# Altium footprint library BLE_ADS_062819.PcbLib: 20 footprints (part 1 of 2)
Each footprint in its own frame and in the unit in brackets; x right, y up, seen from the top. Pads: shape width x height; smd on the part's side, far side on the other; paste and mask are expansions set on the pad; w line width, h text height; cw(c..) or ccw(c..) is an arc to the next point about the centre after c.
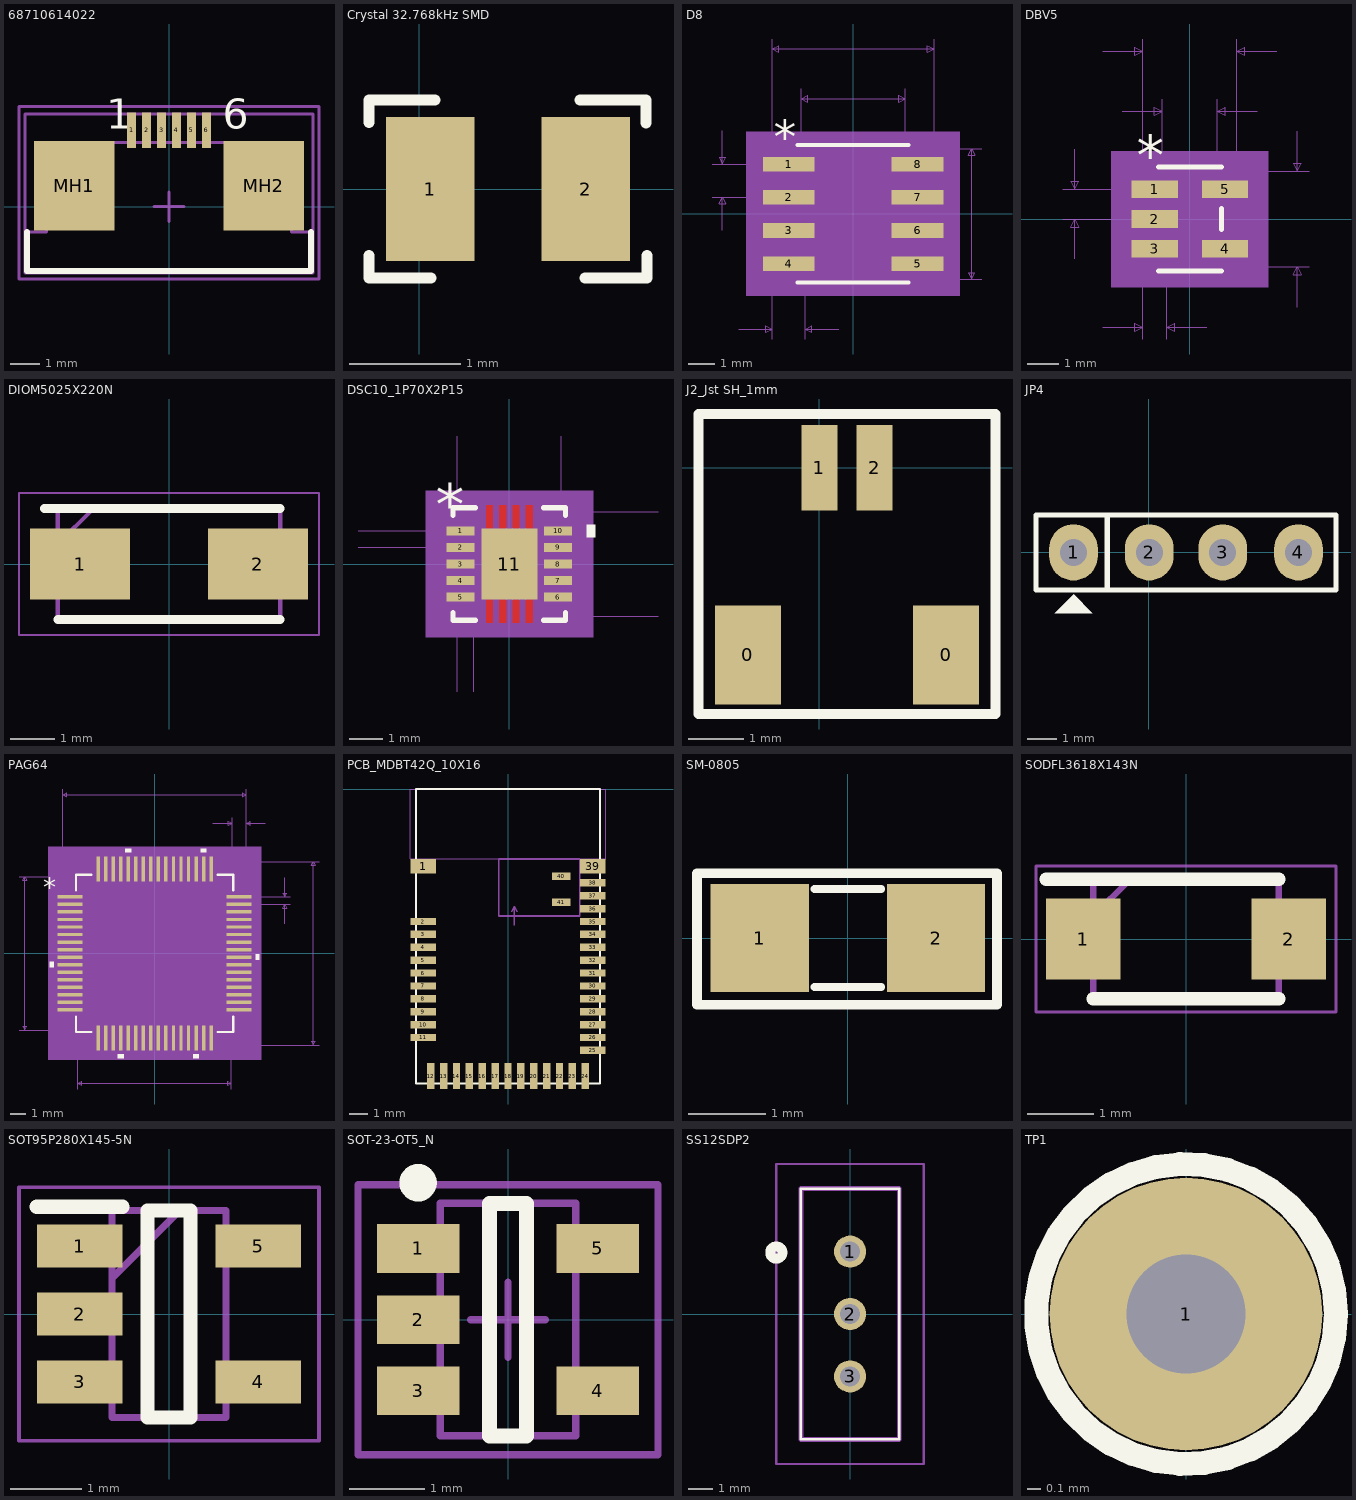
[diagram p0: the footprints below, top view; thin cyan lines are the x and y axes]

## 68710614022 [mm] "ZIF Connectors, Horizontal, Top Contact, pitch 0.5mm, 6p"
height 2.25
pads (8):
  rect 0.3x1.2 smd: 1(-1.25,2.56) 2(-0.75,2.56) 3(-0.25,2.56) 4(0.25,2.56) 5(0.75,2.56) 6(1.25,2.56)
  rect 2.7x3 smd: MH1(-3.18,0.7) MH2(3.18,0.7)
Top Overlay:
  lines w0.2: -4.75,-0.85 -4.75,-2.15 4.75,-2.15 4.75,-0.85
  text "6" at 1.8,2.61 h1
  text "1" at -2.1,2.61 h1
Mechanical 11:
  lines w0.1: -4.75,-2.15 -4.75,-0.85 -4.1,-0.85 -4.1,2.15 4.1,2.15 4.1,-0.85 4.75,-0.85 4.75,-2.15 -4.75,-2.15
Mechanical 13:
  lines w0.1: -4.825,-2.225 4.825,-2.225 4.825,3.1 -4.825,3.1 -4.825,-2.225
Mechanical 15:
  lines w0.1: -0.5,0 0.5,0 ; 0,-0.5 0,0.5 ; -5.025,-2.425 -5.025,3.36 5.025,3.36 5.025,-2.425 -5.025,-2.425
3D body "68710614022.stp": height 2.1, standoff 0, extent -4.7,-2.15 4.7,2.95

## Crystal 32.768kHz SMD [mm] "XT"
height 2.25
pads (2):
  rect 0.8x1.3 smd: 1(0.1,0) 2(1.5,0)
Top Overlay:
  lines w0.1: -0.45,-0.6 -0.45,-0.8 0.105,-0.8 ; -0.45,0.6 -0.45,0.8 0.143,0.8 ; 1.45,0.8 2.043,0.8 2.043,0.597 ; 1.495,-0.8 2.05,-0.8 2.05,-0.6

## D8 [mil]
height 88.58
pads (8):
  rect 78x22 smd paste+0 mask+0: 1(-97,75) 2(-97,25) 3(-97,-25) 4(-97,-75) 5(97,-75) 6(97,-25) 7(97,25) 8(97,75)
Top Overlay:
  lines w6: -83.5,-103.5 83.5,-103.5 ; -83.5,103.5 83.5,103.5
  text "*" at -119.5,92 h50
Mechanical 5:
  region: 161,-123.5 -161,-123.5 -161,123.5 161,123.5
Mechanical 7:
  lines w1: -212,25 -97,25 ; -212,75 -97,75 ; -197,-25 -197,25 ; -197,125 -197,75 ; -172,-173.5 -122,-173.5 ; -122,-188.5 -122,0 -122,263.5 ; -78.5,0 -78.5,188.5 ; -72,-188.5 -72,0 ; -22,-173.5 -72,-173.5 ; 0,-98.5 193.5,-98.5 ; 0,98.5 193.5,98.5 ; 78.5,0 78.5,188.5 ; 122,0 122,263.5 ; -197,25 -202,15 -192,15 -197,25 ; -197,75 -202,85 -192,85 -197,75 ; -122,-173.5 -132,-168.5 -132,-178.5 -122,-173.5 ; -122,248.5 122,248.5 ; -122,248.5 -112,253.5 -112,243.5 -122,248.5 ; -78.5,173.5 78.5,173.5 ; -78.5,173.5 -68.5,178.5 -68.5,168.5 -78.5,173.5 ; -72,-173.5 -62,-168.5 -62,-178.5 -72,-173.5 ; 78.5,173.5 68.5,178.5 68.5,168.5 78.5,173.5 ; 122,248.5 112,253.5 112,243.5 122,248.5 ; 178.5,-98.5 178.5,98.5 ; 178.5,-98.5 173.5,-88.5 183.5,-88.5 178.5,-98.5 ; 178.5,98.5 173.5,88.5 183.5,88.5 178.5,98.5
Mechanical 13:
  lines w0: -12,98.5 ccw(c0,98.5) 12,98.5
  lines w1: -122,-85 -122,-65 -78.5,-65 -78.5,-85 -122,-85 ; -122,-35 -122,-15 -78.5,-15 -78.5,-35 -122,-35 ; -122,15 -122,35 -78.5,35 -78.5,15 -122,15 ; -122,65 -122,85 -78.5,85 -78.5,65 -122,65 ; -78.5,-98.5 78.5,-98.5 78.5,98.5 -78.5,98.5 -78.5,-98.5 ; 78.5,-85 78.5,-65 122,-65 122,-85 78.5,-85 ; 78.5,-35 78.5,-15 122,-15 122,-35 78.5,-35 ; 78.5,15 78.5,35 122,35 122,15 78.5,15 ; 78.5,65 78.5,85 122,85 122,65 78.5,65
  text "*" at -76,45.5 h50
Mechanical 15:
  region: -88.5,-96 -146,-96 -146,96 -88.5,96 -88.5,108.5 88.5,108.5 88.5,96 146,96 146,-96 88.5,-96 88.5,-108.5 -88.5,-108.5
  lines w6: -146,-96 -146,96 -88.5,96 -88.5,108.5 88.5,108.5 88.5,96 146,96 146,-96 88.5,-96 88.5,-108.5 -88.5,-108.5 -88.5,-96 -146,-96
3D body: height 10, standoff 0, extent 0,0 10,10

## DBV5 [mil]
height 88.58
pads (5):
  rect 58x22 smd paste+0 mask+0: 1(-44,37.4) 2(-44,0) 3(-44,-37.4) 4(44,-37.4) 5(44,37.4)
Top Overlay:
  lines w6: -39.5,-65 39.5,-65 ; -39.5,65 39.5,65 ; 39.5,-13.3 39.5,13.3
  text "*" at -66.5,54.4 h50
Mechanical 5:
  region: 98,-85 -98,-85 -98,85 98,85
Mechanical 7:
  lines w1: -159,0 -44,0 ; -159,37.4 -44,37.4 ; -144,-50 -144,0 ; -144,87.4 -144,37.4 ; -109,-135 -59,-135 ; -109,210 -59,210 ; -84.5,135 -34.5,135 ; -59,-150 -59,0 -59,225 ; -34.5,0 -34.5,150 ; -29,-150 -29,0 ; 0,-60 149.5,-60 ; 0,60 149.5,60 ; 21,-135 -29,-135 ; 34.5,0 34.5,150 ; 59,0 59,225 ; 84.5,135 34.5,135 ; 109,210 59,210 ; 134.5,-110 134.5,-60 ; 134.5,110 134.5,60 ; -144,0 -149,-10 -139,-10 -144,0 ; -144,37.4 -149,47.4 -139,47.4 -144,37.4 ; -59,-135 -69,-130 -69,-140 -59,-135 ; -59,210 -69,215 -69,205 -59,210 ; -34.5,135 -44.5,140 -44.5,130 -34.5,135 ; -29,-135 -19,-130 -19,-140 -29,-135 ; 34.5,135 44.5,140 44.5,130 34.5,135 ; 59,210 69,215 69,205 59,210 ; 134.5,-60 129.5,-70 139.5,-70 134.5,-60 ; 134.5,60 129.5,70 139.5,70 134.5,60
Mechanical 13:
  lines w0: -12,60 ccw(c0,60) 12,60
  lines w1: -59,-47.4 -59,-27.4 -34.5,-27.4 -34.5,-47.4 -59,-47.4 ; -59,-10 -59,10 -34.5,10 -34.5,-10 -59,-10 ; -59,27.4 -59,47.4 -34.5,47.4 -34.5,27.4 -59,27.4 ; -34.5,-60 34.5,-60 34.5,60 -34.5,60 -34.5,-60 ; 34.5,-47.4 34.5,-27.4 59,-27.4 59,-47.4 34.5,-47.4 ; 34.5,27.4 34.5,47.4 59,47.4 59,27.4 34.5,27.4
  text "*" at -37,16.4 h50
Mechanical 15:
  region: 44.5,-70 -44.5,-70 -44.5,-58.4 -83,-58.4 -83,58.4 -44.5,58.4 -44.5,70 44.5,70 44.5,58.4 83,58.4 83,-58.4 44.5,-58.4
  lines w6: -83,-58.4 -44.5,-58.4 -44.5,-70 44.5,-70 44.5,-58.4 83,-58.4 83,58.4 44.5,58.4 44.5,70 -44.5,70 -44.5,58.4 -83,58.4 -83,-58.4
3D body: height 10, standoff 0, extent 0,0 10,10

## DIOM5025X220N [mm]
height 2.25
pads (2):
  rect 2.25x1.6 smd: 1(-2,0) 2(2,0)
Top Overlay:
  lines w0.2: -2.8,1.25 2.5,1.25 ; -2.5,-1.25 2.5,-1.25
Mechanical 13:
  lines w0.1: -2.5,0.45 -1.7,1.25 ; -2.5,-1.25 -2.5,1.25 2.5,1.25 2.5,-1.25 -2.5,-1.25
Mechanical 15:
  lines w0.05: -3.375,-1.6 -3.375,1.6 3.375,1.6 3.375,-1.6 -3.375,-1.6
3D body "EC11FS2.stp": height 2.2, standoff 0, extent -2.5,-1.25 2.5,1.25

## DSC10_1P70X2P15 [mm]
height 2.25
pads (11):
  rect 0.85x0.28 smd: 1(-1.475,1) 2(-1.475,0.5) 3(-1.475,0) 4(-1.475,-0.5) 5(-1.475,-1) 6(1.475,-1) 7(1.475,-0.5) 8(1.475,0) 9(1.475,0.5) 10(1.475,1)
  rect 1.7x2.15 smd paste-1.062 mask-1.067: 11(0,0)
Top Layer:
  region: -0.1,1.775 -0.1,1.075 -0.3,1.075 -0.3,1.775
  region: 0.1,1.775 0.1,1.075 0.3,1.075 0.3,1.775
  region: -0.5,1.775 -0.5,1.075 -0.7,1.075 -0.7,1.775
  region: 0.5,1.775 0.5,1.075 0.7,1.075 0.7,1.775
  region: -0.1,-1.775 -0.1,-1.075 -0.3,-1.075 -0.3,-1.775
  region: 0.1,-1.775 0.1,-1.075 0.3,-1.075 0.3,-1.775
  region: -0.5,-1.775 -0.5,-1.075 -0.7,-1.075 -0.7,-1.775
  region: 0.5,-1.775 0.5,-1.075 0.7,-1.075 0.7,-1.775
Top Overlay:
  region: 2.337,1.191 2.591,1.191 2.591,0.81 2.337,0.81
  lines w0.152: -1.702,-1.473 -1.702,-1.702 -1.033,-1.702 ; -1.702,1.473 -1.702,1.702 -1.033,1.702 ; 1.033,-1.702 1.702,-1.702 1.702,-1.473 ; 1.033,1.702 1.702,1.702 1.702,1.473
  text "*" at -2.23,1.153 h1.27
Top Paste:
  drawing of 27 lines, arcs and shapes, not listed
Top Solder:
  region: -0.98,1.21 -1.97,1.21 -1.97,0.79 -0.98,0.79
  region: -0.98,0.71 -1.97,0.71 -1.97,0.29 -0.98,0.29
  region: -0.98,0.21 -1.97,0.21 -1.97,-0.21 -0.98,-0.21
  region: -0.98,-0.29 -1.97,-0.29 -1.97,-0.71 -0.98,-0.71
  region: -0.98,-0.79 -1.97,-0.79 -1.97,-1.21 -0.98,-1.21
  region: 1.97,-0.79 0.98,-0.79 0.98,-1.21 1.97,-1.21
  region: 1.97,-0.29 0.98,-0.29 0.98,-0.71 1.97,-0.71
  region: 1.97,0.21 0.98,0.21 0.98,-0.21 1.97,-0.21
  region: 1.97,0.71 0.98,0.71 0.98,0.29 1.97,0.29
  region: 1.97,1.21 0.98,1.21 0.98,0.79 1.97,0.79
  region: -0.1,1.775 -0.1,1.075 -0.3,1.075 -0.3,1.775
  region: 0.1,1.775 0.1,1.075 0.3,1.075 0.3,1.775
  region: -0.5,1.775 -0.5,1.075 -0.7,1.075 -0.7,1.775
  region: 0.5,1.775 0.5,1.075 0.7,1.075 0.7,1.775
  region: -0.1,-1.775 -0.1,-1.075 -0.3,-1.075 -0.3,-1.775
  region: 0.1,-1.775 0.1,-1.075 0.3,-1.075 0.3,-1.775
  region: -0.5,-1.775 -0.5,-1.075 -0.7,-1.075 -0.7,-1.775
  region: 0.5,-1.775 0.5,-1.075 0.7,-1.075 0.7,-1.775
  region: -0.914,0.594 -0.914,1.138 0.914,1.138 0.914,0.594
  region: -0.914,-0.194 -0.914,0.194 0.914,0.194 0.914,-0.194
  region: -0.914,-1.138 -0.914,-0.594 0.914,-0.594 0.914,-1.138
  region: -0.914,-1.138 -0.914,1.138 -0.594,1.138 -0.594,-1.138
  region: 0.194,-1.138 0.194,1.138 -0.194,1.138 -0.194,-1.138
  region: 0.594,-1.138 0.594,1.138 0.914,1.138 0.914,-1.138
Mechanical 5:
  region: 2.535,-2.21 -2.535,-2.21 -2.535,2.21 2.535,2.21
Mechanical 7:
  lines w0.025: -4.579,0.5 -1.658,0.5 ; -4.579,1 -1.658,1 ; -1.575,-3.861 -1.575,0 -1.575,3.861 ; -1.075,-3.861 -1.075,0 ; 0,-1.575 4.496,-1.575 ; 0,1.575 4.496,1.575 ; 1.575,0 1.575,3.861
Mechanical 13:
  lines w0: -0.305,1.575 ccw(c0,1.575) 0.305,1.575
  lines w0.025: -1.575,-1.575 1.575,-1.575 1.575,1.575 -1.575,1.575 -1.575,-1.575 ; -1.575,-1.15 -1.575,-0.85 -1.575,-1.15 ; -1.575,-0.65 -1.575,-0.35 -1.575,-0.65 ; -1.575,-0.15 -1.575,0.15 -1.575,-0.15 ; -1.575,0.35 -1.575,0.65 -1.575,0.35 ; -1.575,0.85 -1.575,1.15 -1.575,0.85 ; 1.575,-1.15 1.575,-0.85 1.575,-1.15 ; 1.575,-0.65 1.575,-0.35 1.575,-0.65 ; 1.575,-0.15 1.575,0.15 1.575,-0.15 ; 1.575,0.35 1.575,0.65 1.575,0.35 ; 1.575,0.85 1.575,1.15 1.575,0.85
  text "*" at -1.639,0.086 h1.27
Mechanical 15:
  region: -1.829,-1.394 -2.154,-1.394 -2.154,1.394 -1.829,1.394 -1.829,2.029 1.829,2.029 1.829,1.394 2.154,1.394 2.154,-1.394 1.829,-1.394 1.829,-2.029 -1.829,-2.029
  lines w0.152: -2.154,-1.394 -2.154,1.394 -1.829,1.394 -1.829,2.029 1.829,2.029 1.829,1.394 2.154,1.394 2.154,-1.394 1.829,-1.394 1.829,-2.029 -1.829,-2.029 -1.829,-1.394 -2.154,-1.394
Mechanical 16:
  circle w0.127: c-0.394,-0.394 r0.191
  circle w0.127: c-0.394,0.394 r0.191
  circle w0.127: c0.394,-0.394 r0.191
  circle w0.127: c0.394,0.394 r0.191
3D body: height 0.25, standoff 0, extent 0,0 0.254,0.254

## J2_Jst SH_1mm [mm] "Jum select vdd or gnd"
height 5.08
pads (4):
  rect 1.2x1.8 smd: 0(-1.3,-3.4) 0(2.3,-3.4)
  rect 0.65x1.55 smd: 1(0,0) 2(1,0)
Top Overlay:
  lines w0.178: -2.2,-4.475 3.2,-4.475 3.2,0.975 -2.2,0.975 -2.2,-4.475

## JP4 [mil] "Jumper 4"
height 200
pads (4):
  oval 65x75 hole 36: 1(-100,0) 2(1,0) 3(99,0) 4(200,0)
Top Overlay:
  region: -100,-56 -125,-81 -75,-81
  lines w7: -55,-50 -55,49 ; -150,-50 -150,50 250,50 250,-50 -150,-50
3D body "JP4.stp": height 323.44, standoff -117.51, extent -148.03,-48.43 248.03,50

## PAG64 [mil]
height 88.58
pads (64):
  rect 65.5x9 smd paste+0 mask+0: 1(-221.25,147.64) 2(-221.25,127.95) 3(-221.25,108.27) 4(-221.25,88.58) 5(-221.25,68.9) 6(-221.25,49.21) 7(-221.25,29.53) 8(-221.25,9.84) 9(-221.25,-9.84) 10(-221.25,-29.53) 11(-221.25,-49.21) 12(-221.25,-68.9) 13(-221.25,-88.58) 14(-221.25,-108.27) 15(-221.25,-127.95) 16(-221.25,-147.64) 33(221.25,-147.64) 34(221.25,-127.95) 35(221.25,-108.27) 36(221.25,-88.58) 37(221.25,-68.9) 38(221.25,-49.21) 39(221.25,-29.53) 40(221.25,-9.84) 41(221.25,9.84) 42(221.25,29.53) 43(221.25,49.21) 44(221.25,68.9) 45(221.25,88.58) 46(221.25,108.27) 47(221.25,127.95) 48(221.25,147.64)
  rect 9x65.5 smd paste+0 mask+0: 17(-147.64,-221.25) 18(-127.95,-221.25) 19(-108.27,-221.25) 20(-88.58,-221.25) 21(-68.9,-221.25) 22(-49.21,-221.25) 23(-29.53,-221.25) 24(-9.84,-221.25) 25(9.84,-221.25) 26(29.53,-221.25) 27(49.21,-221.25) 28(68.9,-221.25) 29(88.58,-221.25) 30(108.27,-221.25) 31(127.95,-221.25) 32(147.64,-221.25) 49(147.64,221.25) 50(127.95,221.25) 51(108.27,221.25) 52(88.58,221.25) 53(68.9,221.25) 54(49.21,221.25) 55(29.53,221.25) 56(9.84,221.25) 57(-9.84,221.25) 58(-29.53,221.25) 59(-49.21,221.25) 60(-68.9,221.25) 61(-88.58,221.25) 62(-108.27,221.25) 63(-127.95,221.25) 64(-147.64,221.25)
Top Overlay:
  region: -264,-22.03 -274,-22.03 -274,-37.03 -264,-37.03
  region: -81.08,-264 -96.08,-264 -96.08,-274 -81.08,-274
  region: 115.77,-264 100.77,-264 100.77,-274 115.77,-274
  region: 264,-2.34 274,-2.34 274,-17.34 264,-17.34
  region: 135.45,264 120.45,264 120.45,274 135.45,274
  region: -61.4,264 -76.4,264 -76.4,274 -61.4,274
  lines w6: -206,-165.24 -206,-206 -165.24,-206 ; -206,165.24 -206,206 -165.24,206 ; 165.24,-206 206,-206 206,-165.24 ; 165.24,206 206,206 206,165.24
  text "*" at -291.5,147.48 h50
Mechanical 5:
  region: 279,-279 -279,-279 -279,279 279,279
Mechanical 7:
  lines w1: -355,-201 -147.64,-201 ; -355,201 -147.64,201 ; -240,147.64 -240,430 ; -201,-355 -201,-147.64 ; 147.64,-240 430,-240 ; 147.64,240 430,240 ; 152.5,340 202.5,340 ; 201,-355 201,-147.64 ; 202.5,147.64 202.5,355 ; 221.25,127.95 355,127.95 ; 221.25,147.64 355,147.64 ; 240,355 240,147.64 240,430 ; 290,340 240,340 ; 340,77.95 340,127.95 ; 340,197.64 340,147.64 ; -340,-201 -340,201 ; -340,-201 -345,-191 -335,-191 -340,-201 ; -340,201 -345,191 -335,191 -340,201 ; -240,415 240,415 ; -240,415 -230,420 -230,410 -240,415 ; -201,-340 201,-340 ; -201,-340 -191,-335 -191,-345 -201,-340 ; 201,-340 191,-335 191,-345 201,-340 ; 202.5,340 192.5,345 192.5,335 202.5,340 ; 240,340 250,345 250,335 240,340 ; 240,415 230,420 230,410 240,415 ; 340,127.95 335,117.95 345,117.95 340,127.95 ; 340,147.64 335,157.64 345,157.64 340,147.64 ; 415,-240 415,240 ; 415,-240 410,-230 420,-230 415,-240 ; 415,240 410,230 420,230 415,240
Mechanical 13:
  drawing of 261 lines, arcs and shapes, not listed
  text "*" at -198.5,132.48 h50
Mechanical 15:
  region: -162.14,-211 -211,-211 -211,-162.14 -264,-162.14 -264,162.14 -211,162.14 -211,211 -162.14,211 -162.14,264 162.14,264 162.14,211 211,211 211,162.14 264,162.14 264,-162.14 211,-162.14 211,-211 162.14,-211 162.14,-264 -162.14,-264
  lines w6: -264,-162.14 -211,-162.14 -211,-211 -162.14,-211 -162.14,-264 162.14,-264 162.14,-211 211,-211 211,-162.14 264,-162.14 264,162.14 211,162.14 211,211 162.14,211 162.14,264 -162.14,264 -162.14,211 -211,211 -211,162.14 -264,162.14 -264,-162.14
3D body: height 10, standoff 0, extent 0,0 10,10

## PCB_MDBT42Q_10X16 [mm]
height 2.25
pads (41):
  rect 1.4x0.8 smd mask+0: 1(-4.6,-4.2) 39(4.6,-4.2)
  rect 1.4x0.4 smd mask+0: 2(-4.6,-7.2) 3(-4.6,-7.9) 5(-4.6,-9.3) 6(-4.6,-10) 7(-4.6,-10.7) 8(-4.6,-11.4) 9(-4.6,-12.1) 10(-4.6,-12.8) 11(-4.6,-13.5) 25(4.6,-14.2) 26(4.6,-13.5) 27(4.6,-12.8) 28(4.6,-12.1) 29(4.6,-11.4) 30(4.6,-10.7) 31(4.6,-10) 32(4.6,-9.3) 33(4.6,-8.6) 34(4.6,-7.9) 35(4.6,-7.2) 36(4.6,-6.5) 37(4.6,-5.8) 38(4.6,-5.1)
  rect 1.4x0.4 smd: 4(-4.6,-8.6)
  rect 0.4x1.4 smd mask+0: 12(-4.2,-15.6) 13(-3.5,-15.6) 14(-2.8,-15.6) 15(-2.1,-15.6) 16(-1.4,-15.6) 17(-0.7,-15.6) 18(0,-15.6) 19(0.7,-15.6) 20(1.4,-15.6) 21(2.1,-15.6) 22(2.8,-15.6) 23(3.5,-15.6) 24(4.2,-15.6)
  rect 1x0.4 smd mask+0: 40(2.9,-4.75) 41(2.9,-6.15)
Top Overlay:
  lines w0.1: -5,-16 -5,0 0,0 5,0 5,-16 -5,-16
Mechanical 2:
  lines w0.05: -5.3,-3.8 -0.5,-3.8 3.9,-3.8 5.3,-3.8 5.3,0 -5.3,0 -5.3,-3.8
  text "No ground pad" at -2.615,-1.89 h0.45
Mechanical 3:
  lines w0.08: 0.2,-6.675 0.35,-6.375 ; 0.35,-7.4 0.35,-6.375 ; 0.5,-6.675 0.35,-6.375
  lines w0.1: -0.5,-6.9 3.9,-6.9 3.9,-3.8 -0.5,-3.8 -0.5,-6.9
  text "Toplayer no ground pad" at -2.8,-7.775 h0.3

## SM-0805 [mil] "Compoment SMD 80x50mil"
height 50
pads (2):
  rect 50x55 smd: 1(-45,0) 2(45,0)
Top Overlay:
  lines w4: -17,-25 17,-25 ; -17,25 17,25
  lines w5: -77,-34 -77,33 76,33 76,-34 -77,-34
3D body "SW3dPS-smt_resistor_packages.STEP": height 24.02, standoff -0.39, extent -39.76,-25 39.76,25

## SODFL3618X143N [mm]
height 2.25
pads (2):
  rect 1.12x1.22 smd: 1(-1.55,0) 2(1.55,0)
Top Overlay:
  lines w0.2: -2.11,0.9 1.4,0.9 ; -1.4,-0.9 1.4,-0.9
Mechanical 13:
  lines w0.1: -1.4,0.34 -0.84,0.9 ; -1.4,-0.9 -1.4,0.9 1.4,0.9 1.4,-0.9 -1.4,-0.9
Mechanical 15:
  lines w0.05: -2.26,-1.1 -2.26,1.1 2.26,1.1 2.26,-1.1 -2.26,-1.1
3D body "SS34FA.stp": height 1.43, standoff 0, extent -1.8,-0.9 1.8,0.9

## SOT95P280X145-5N [mm]
height 2.25
pads (5):
  rect 1.2x0.6 smd: 1(-1.25,0.95) 2(-1.25,0) 3(-1.25,-0.95) 4(1.25,-0.95) 5(1.25,0.95)
Top Overlay:
  lines w0.2: -1.85,1.5 -0.65,1.5 ; -0.3,-1.45 -0.3,1.45 0.3,1.45 0.3,-1.45 -0.3,-1.45
Mechanical 13:
  lines w0.1: -0.8,0.5 0.15,1.45 ; -0.8,-1.45 -0.8,1.45 0.8,1.45 0.8,-1.45 -0.8,-1.45
Mechanical 15:
  lines w0.05: -2.1,-1.775 -2.1,1.775 2.1,1.775 2.1,-1.775 -2.1,-1.775
3D body "TPS60403DBVR.stp": height 1.45, standoff 0, extent -1.4,-1.45 1.4,1.45

## SOT-23-OT5_N [mm] "SOT23, 5-Leads, Body 2.9x1.6mm, Pitch 0.95mm, Lead Span 2.7mm, IPC Medium Density"
height 1.45
pads (5):
  rect 1.1x0.65 smd: 1(-1.2,0.95) 2(-1.2,0) 3(-1.2,-0.95) 4(1.2,-0.95) 5(1.2,0.95)
Top Overlay:
  circle w0.25: c-1.2,1.825 r0.125
  lines w0.2: -0.25,-1.55 -0.25,1.55 0.25,1.55 0.25,-1.55 -0.25,-1.55
Mechanical 13:
  lines w0.1: -0.9,-1.55 0.9,-1.55 0.9,1.55 -0.9,1.55 -0.9,-1.55
Mechanical 15:
  lines w0.1: -0.5,0 0.5,0 ; 0,-0.5 0,0.5 ; -2,-1.8 2,-1.8 2,1.8 -2,1.8 -2,-1.8
3D body: height 1.45, standoff 0, extent -0.9,-1.55 0.9,1.55

## SS12SDP2 [mm]
height 2.25
pads (3):
  round 1.3 hole 0.8: 1(0,2.54) 2(0,0) 3(0,-2.54)
Top Overlay:
  lines w0.1: -2,-5.1 -2,5.1 2,5.1 2,-5.1 -2,-5.1
  lines w0.4: -3,2.25 cw(c-3,2.5) -3,2.75 cw(c-3,2.5) -3,2.25
Mechanical 13:
  lines w0.2: -2,-5.1 -2,5.1 2,5.1 2,-5.1 -2,-5.1
Mechanical 15:
  lines w0.1: -3,-6.1 -3,6.1 3,6.1 3,-6.1 -3,-6.1
3D body "SS12SDP2.stp": height 4, standoff -5, extent -2,-5.1 2,5.1

## TP1 [mil] "Test point"
height 150
pads (1):
  round 80 hole 35: 1(0,0)
Top Overlay:
  circle w7: c0,0 r44.01